# Altium footprint library Connector_Molex.PcbLib: 815 footprints (part 17 of 51)
Each footprint in its own frame and in the unit in brackets; x right, y up, seen from the top. Pads: shape width x height; smd on the part's side, far side on the other; paste and mask are expansions set on the pad; w line width, h text height; cw(c..) or ccw(c..) is an arc to the next point about the centre after c.
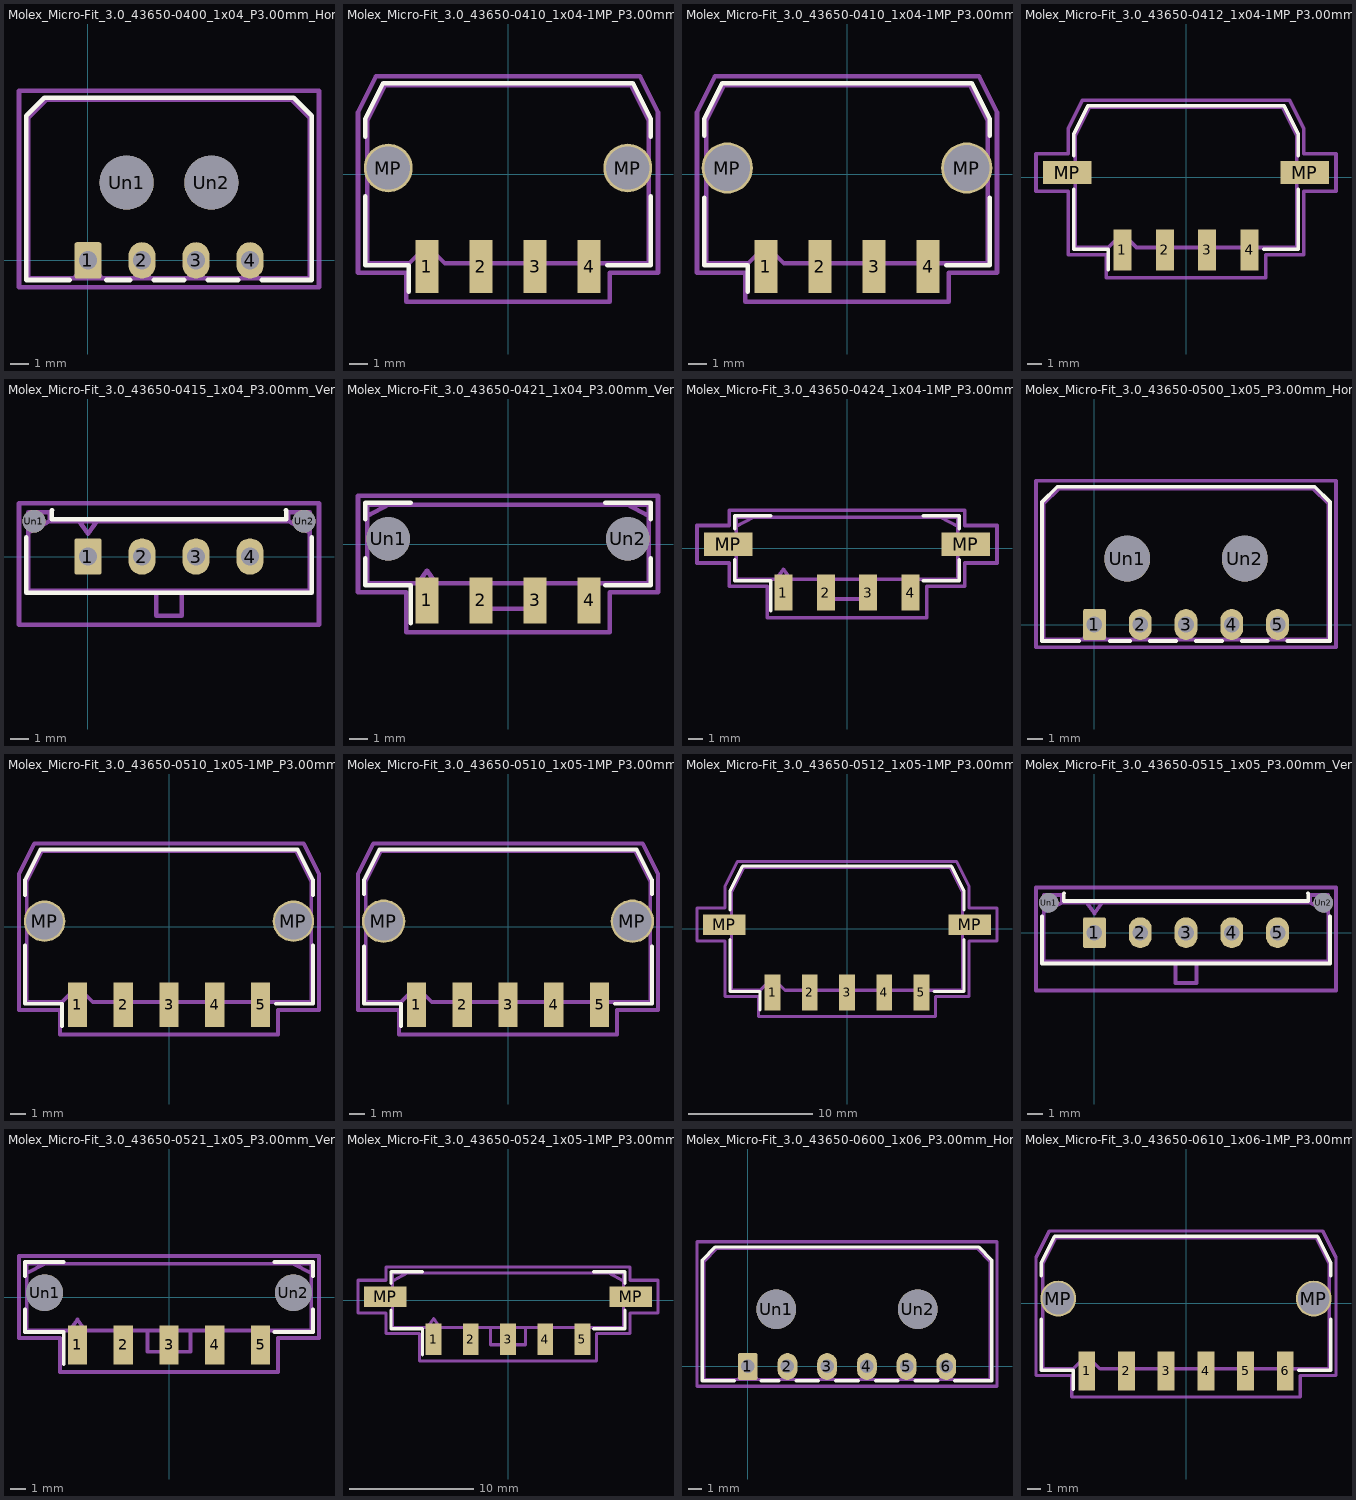
[diagram p16: the footprints below, top view; thin cyan lines are the x and y axes]

## Molex_Micro-Fit_3.0_43650-0400_1x04_P3.00mm_Horizontal [mm]
pads (6):
  rrect17% 1.5x2.02 hole 1.02: 1(0,0)
  rrect100% 1.5x2.02 hole 1.02: 2(3,0) 3(6,0) 4(9,0)
  round 3 hole 3: Un1(2.15,4.32) Un2(6.85,4.32)
F.SilkS:
  lines w0.254: -1.01,-1.09 -3.435,-1.09 -3.435,8.03 -2.435,9.03 11.435,9.03 12.435,8.03 12.435,-1.09 9.652,-1.09 ; 1.01,-1.09 2.348,-1.09 ; 3.652,-1.09 5.348,-1.09 ; 6.652,-1.09 8.348,-1.09
Top Assembly:
  lines w0.254: -0.75,-0.98 0,0 0.75,-0.98 ; -3.325,-0.98 12.325,-0.98 12.325,7.92 11.325,8.92 -2.325,8.92 -3.325,7.92 -3.325,-0.98
  text "'.Designator'" at 0.453,7.38 h1
Top Courtyard:
  lines w0.254: -3.83,-1.49 12.83,-1.49 12.83,9.42 -3.83,9.42 -3.83,-1.49
Top Designator:
  text ".Designator" at -3.118,3.457 h1.52

## Molex_Micro-Fit_3.0_43650-0410_1x04-1MP_P3.00mm_Horizontal [mm]
pads (6):
  rect 1.27x2.92 smd: 1(-4.5,-5.12) 2(-1.5,-5.12) 3(1.5,-5.12) 4(4.5,-5.12)
  round 2.71 hole 2.41: MP(-6.65,0.35) MP(6.65,0.35)
F.SilkS:
  lines w0.254: -7.935,-1.225 -7.935,-5.06 -5.505,-5.06 -5.505,-6.52 ; -7.935,2.075 -7.935,3.06 -6.935,5.06 0,5.06 6.935,5.06 7.935,3.06 7.935,2.075 ; 5.505,-5.06 7.935,-5.06 7.935,-1.225
Top Assembly:
  lines w0.254: -7.825,-4.95 -5.5,-4.95 -4.5,-3.95 -3.5,-4.95 0,-4.95 5.135,-4.95 7.825,-4.95 7.825,1.705 7.825,2.95 6.825,4.95 0,4.95 -6.825,4.95 -7.825,2.95 -7.825,1.705 -7.825,-4.95
  text "'.Designator'" at -4.047,3.41 h1
Top Courtyard:
  lines w0.254: -8.33,-5.46 -5.64,-5.46 -5.64,-7.08 0,-7.08 5.64,-7.08 5.64,-5.46 8.33,-5.46 8.33,2.21 8.33,3.45 7.33,5.45 0,5.45 -7.33,5.45 -8.33,3.45 -8.33,2.21 -8.33,-5.46
Top Designator:
  text ".Designator" at -7.618,-1.323 h1.52

## Molex_Micro-Fit_3.0_43650-0410_1x04-1MP_P3.00mm_Horizontal_PnP [mm]
pads (6):
  rect 1.27x2.92 smd: 1(-4.5,-5.12) 2(-1.5,-5.12) 3(1.5,-5.12) 4(4.5,-5.12)
  round 2.84 hole 2.54: MP(-6.65,0.35) MP(6.65,0.35)
F.SilkS:
  lines w0.254: -7.935,-1.29 -7.935,-5.06 -5.505,-5.06 -5.505,-6.52 ; -7.935,2.14 -7.935,3.06 -6.935,5.06 0,5.06 6.935,5.06 7.935,3.06 7.935,2.14 ; 5.505,-5.06 7.935,-5.06 7.935,-1.29
Top Assembly:
  lines w0.254: -7.825,-4.95 -5.5,-4.95 -4.5,-3.95 -3.5,-4.95 0,-4.95 5.135,-4.95 7.825,-4.95 7.825,1.77 7.825,2.95 6.825,4.95 0,4.95 -6.825,4.95 -7.825,2.95 -7.825,1.77 -7.825,-4.95
  text "'.Designator'" at -4.047,3.41 h1
Top Courtyard:
  lines w0.254: -8.33,-5.46 -5.64,-5.46 -5.64,-7.08 0,-7.08 5.64,-7.08 5.64,-5.46 8.33,-5.46 8.33,2.27 8.33,3.45 7.33,5.45 0,5.45 -7.33,5.45 -8.33,3.45 -8.33,2.27 -8.33,-5.46
Top Designator:
  text ".Designator" at -7.618,-1.323 h1.52

## Molex_Micro-Fit_3.0_43650-0412_1x04-1MP_P3.00mm_Horizontal [mm]
pads (6):
  rect 1.27x2.92 smd: 1(-4.5,-5.12) 2(-1.5,-5.12) 3(1.5,-5.12) 4(4.5,-5.12)
  rect 3.43x1.65 smd: MP(-8.385,0.35) MP(8.385,0.35)
F.SilkS:
  lines w0.254: -7.935,-0.845 -7.935,-5.06 -5.505,-5.06 -5.505,-6.52 ; -7.935,1.545 -7.935,3.06 -6.935,5.06 0,5.06 6.935,5.06 7.935,3.06 7.935,1.545 ; 5.505,-5.06 7.935,-5.06 7.935,-0.845
Top Assembly:
  lines w0.254: -7.825,-4.95 -5.5,-4.95 -4.5,-3.95 -3.5,-4.95 0,-4.95 5.135,-4.95 7.825,-4.95 7.825,1.175 7.825,2.95 6.825,4.95 0,4.95 -6.825,4.95 -7.825,2.95 -7.825,1.175 -7.825,-4.95
  text "'.Designator'" at -4.047,3.41 h1
Top Courtyard:
  lines w0.254: -10.6,-0.98 -8.33,-0.98 -8.33,-5.46 -5.64,-5.46 -5.64,-7.08 0,-7.08 5.64,-7.08 5.64,-5.46 8.33,-5.46 8.33,-0.98 10.6,-0.98 10.6,1.68 8.33,1.68 8.33,3.45 7.33,5.45 0,5.45 -7.33,5.45 -8.33,3.45 -8.33,1.68 -10.6,1.68 -10.6,-0.98
Top Designator:
  text ".Designator" at -7.618,-1.323 h1.52

## Molex_Micro-Fit_3.0_43650-0415_1x04_P3.00mm_Vertical [mm]
pads (6):
  rrect17% 1.5x2.02 hole 1.02: 1(0,0)
  rrect100% 1.5x2.02 hole 1.02: 2(3,0) 3(6,0) 4(9,0)
  round 1.27 hole 1.27: Un1(-3,1.96) Un2(12,1.96)
F.SilkS:
  lines w0.254: -3.435,1.065 -3.435,-2.01 12.435,-2.01 12.435,1.065 ; -1.995,2.58 -2.015,2.58 -2.015,2.08 11.015,2.08 11.015,2.58 10.995,2.58
Top Assembly:
  lines w0.254: -3.325,1.34 -2.125,1.97 ; -0.5,1.97 0,1.263 0.5,1.97 ; 3.8,-1.9 3.8,-3.3 5.2,-3.3 5.2,-1.9 ; 12.325,1.34 11.125,1.97 ; -2.125,1.97 11.125,1.97 ; -2.125,1.97 -2.125,2.47 -3.325,2.47 -3.325,-1.9 12.325,-1.9 12.325,2.47 11.125,2.47 11.125,1.97
  text "'.Designator'" at 0.453,-2.04 h1
Top Courtyard:
  lines w0.254: -3.83,-3.8 12.83,-3.8 12.83,2.97 -3.83,2.97 -3.83,-3.8
Top Designator:
  text ".Designator" at -3.118,-0.923 h1.52

## Molex_Micro-Fit_3.0_43650-0421_1x04_P3.00mm_Vertical [mm]
pads (6):
  rect 1.27x2.54 smd: 1(-4.5,-3.135) 2(-1.5,-3.135) 3(1.5,-3.135) 4(4.5,-3.135)
  round 2.41 hole 2.41: Un1(-6.65,0.285) Un2(6.65,0.285)
F.SilkS:
  lines w0.254: -7.935,-0.8 -7.935,-2.295 -5.395,-2.295 -5.395,-4.405 ; -7.935,1.37 -7.935,2.295 -6.515,2.295 -5.395,2.295 ; 5.395,-2.295 7.935,-2.295 7.935,-0.8 ; 5.395,2.295 6.515,2.295 7.935,2.295 7.935,1.37
Top Assembly:
  lines w0.254: -7.825,1.555 -6.625,2.185 ; -5,-2.185 -4.5,-1.478 -4,-2.185 ; -1.4,-2.185 -1.4,-3.585 1.4,-3.585 1.4,-2.185 ; 7.825,1.555 6.625,2.185 ; -6.625,2.185 6.625,2.185 ; -6.625,2.185 -7.825,2.185 -7.825,-2.185 7.825,-2.185 7.825,2.185 6.625,2.185
  text "'.Designator'" at -4.047,-2.32 h1
Top Courtyard:
  lines w0.254: -8.33,-2.69 -5.64,-2.69 -5.64,-4.91 0,-4.91 5.64,-4.91 5.64,-2.69 8.33,-2.69 8.33,2.69 5.64,2.69 0,2.69 -5.64,2.69 -8.33,2.69 -8.33,-2.69
Top Designator:
  text ".Designator" at -7.618,-1.618 h1.52

## Molex_Micro-Fit_3.0_43650-0424_1x04-1MP_P3.00mm_Vertical [mm]
pads (6):
  rect 1.27x2.54 smd: 1(-4.5,-3.135) 2(-1.5,-3.135) 3(1.5,-3.135) 4(4.5,-3.135)
  rect 3.43x1.65 smd: MP(-8.385,0.285) MP(8.385,0.285)
F.SilkS:
  lines w0.254: -7.935,-0.8 -7.935,-2.295 -5.395,-2.295 -5.395,-4.405 ; -7.935,1.37 -7.935,2.295 -6.515,2.295 -5.395,2.295 ; 5.395,-2.295 7.935,-2.295 7.935,-0.8 ; 5.395,2.295 6.515,2.295 7.935,2.295 7.935,1.37
Top Assembly:
  lines w0.254: -7.825,1.555 -6.625,2.185 ; -5,-2.185 -4.5,-1.478 -4,-2.185 ; -1.4,-2.185 -1.4,-3.585 1.4,-3.585 1.4,-2.185 ; 7.825,1.555 6.625,2.185 ; -6.625,2.185 6.625,2.185 ; -6.625,2.185 -7.825,2.185 -7.825,-2.185 7.825,-2.185 7.825,2.185 6.625,2.185
  text "'.Designator'" at -4.047,-2.32 h1
Top Courtyard:
  lines w0.254: -10.6,-1.04 -8.33,-1.04 -8.33,-2.69 -5.64,-2.69 -5.64,-4.91 0,-4.91 5.64,-4.91 5.64,-2.69 8.33,-2.69 8.33,-1.04 10.6,-1.04 10.6,1.61 8.33,1.61 8.33,2.69 5.64,2.69 0,2.69 -5.64,2.69 -8.33,2.69 -8.33,1.61 -10.6,1.61 -10.6,-1.04
Top Designator:
  text ".Designator" at -7.618,-1.618 h1.52

## Molex_Micro-Fit_3.0_43650-0500_1x05_P3.00mm_Horizontal [mm]
pads (7):
  rrect17% 1.5x2.02 hole 1.02: 1(0,0)
  rrect100% 1.5x2.02 hole 1.02: 2(3,0) 3(6,0) 4(9,0) 5(12,0)
  round 3 hole 3: Un1(2.15,4.32) Un2(9.85,4.32)
F.SilkS:
  lines w0.254: -1.01,-1.09 -3.435,-1.09 -3.435,8.03 -2.435,9.03 14.435,9.03 15.435,8.03 15.435,-1.09 12.652,-1.09 ; 1.01,-1.09 2.348,-1.09 ; 3.652,-1.09 5.348,-1.09 ; 6.652,-1.09 8.348,-1.09 ; 9.652,-1.09 11.348,-1.09
Top Assembly:
  lines w0.254: -0.75,-0.98 0,0 0.75,-0.98 ; -3.325,-0.98 15.325,-0.98 15.325,7.92 14.325,8.92 -2.325,8.92 -3.325,7.92 -3.325,-0.98
  text "'.Designator'" at 1.953,7.38 h1
Top Courtyard:
  lines w0.254: -3.83,-1.49 15.83,-1.49 15.83,9.42 -3.83,9.42 -3.83,-1.49
Top Designator:
  text ".Designator" at -1.618,3.457 h1.52

## Molex_Micro-Fit_3.0_43650-0510_1x05-1MP_P3.00mm_Horizontal [mm]
pads (7):
  rect 1.27x2.92 smd: 1(-6,-5.12) 2(-3,-5.12) 3(0,-5.12) 4(3,-5.12) 5(6,-5.12)
  round 2.71 hole 2.41: MP(-8.15,0.35) MP(8.15,0.35)
F.SilkS:
  lines w0.254: -9.435,-1.225 -9.435,-5.06 -7.005,-5.06 -7.005,-6.52 ; -9.435,2.075 -9.435,3.06 -8.435,5.06 0,5.06 8.435,5.06 9.435,3.06 9.435,2.075 ; 7.005,-5.06 9.435,-5.06 9.435,-1.225
Top Assembly:
  lines w0.254: -9.325,-4.95 -7,-4.95 -6,-3.95 -5,-4.95 0,-4.95 6.635,-4.95 9.325,-4.95 9.325,1.705 9.325,2.95 8.325,4.95 0,4.95 -8.325,4.95 -9.325,2.95 -9.325,1.705 -9.325,-4.95
  text "'.Designator'" at -4.047,3.41 h1
Top Courtyard:
  lines w0.254: -9.83,-5.46 -7.14,-5.46 -7.14,-7.08 0,-7.08 7.14,-7.08 7.14,-5.46 9.83,-5.46 9.83,2.21 9.83,3.45 8.83,5.45 0,5.45 -8.83,5.45 -9.83,3.45 -9.83,2.21 -9.83,-5.46
Top Designator:
  text ".Designator" at -7.618,-1.323 h1.52

## Molex_Micro-Fit_3.0_43650-0510_1x05-1MP_P3.00mm_Horizontal_PnP [mm]
pads (7):
  rect 1.27x2.92 smd: 1(-6,-5.12) 2(-3,-5.12) 3(0,-5.12) 4(3,-5.12) 5(6,-5.12)
  round 2.84 hole 2.54: MP(-8.15,0.35) MP(8.15,0.35)
F.SilkS:
  lines w0.254: -9.435,-1.29 -9.435,-5.06 -7.005,-5.06 -7.005,-6.52 ; -9.435,2.14 -9.435,3.06 -8.435,5.06 0,5.06 8.435,5.06 9.435,3.06 9.435,2.14 ; 7.005,-5.06 9.435,-5.06 9.435,-1.29
Top Assembly:
  lines w0.254: -9.325,-4.95 -7,-4.95 -6,-3.95 -5,-4.95 0,-4.95 6.635,-4.95 9.325,-4.95 9.325,1.77 9.325,2.95 8.325,4.95 0,4.95 -8.325,4.95 -9.325,2.95 -9.325,1.77 -9.325,-4.95
  text "'.Designator'" at -4.047,3.41 h1
Top Courtyard:
  lines w0.254: -9.83,-5.46 -7.14,-5.46 -7.14,-7.08 0,-7.08 7.14,-7.08 7.14,-5.46 9.83,-5.46 9.83,2.27 9.83,3.45 8.83,5.45 0,5.45 -8.83,5.45 -9.83,3.45 -9.83,2.27 -9.83,-5.46
Top Designator:
  text ".Designator" at -7.618,-1.323 h1.52

## Molex_Micro-Fit_3.0_43650-0512_1x05-1MP_P3.00mm_Horizontal [mm]
pads (7):
  rect 1.27x2.92 smd: 1(-6,-5.12) 2(-3,-5.12) 3(0,-5.12) 4(3,-5.12) 5(6,-5.12)
  rect 3.43x1.65 smd: MP(-9.885,0.35) MP(9.885,0.35)
F.SilkS:
  lines w0.254: -9.435,-0.845 -9.435,-5.06 -7.005,-5.06 -7.005,-6.52 ; -9.435,1.545 -9.435,3.06 -8.435,5.06 0,5.06 8.435,5.06 9.435,3.06 9.435,1.545 ; 7.005,-5.06 9.435,-5.06 9.435,-0.845
Top Assembly:
  lines w0.254: -9.325,-4.95 -7,-4.95 -6,-3.95 -5,-4.95 0,-4.95 6.635,-4.95 9.325,-4.95 9.325,1.175 9.325,2.95 8.325,4.95 0,4.95 -8.325,4.95 -9.325,2.95 -9.325,1.175 -9.325,-4.95
  text "'.Designator'" at -4.047,3.41 h1
Top Courtyard:
  lines w0.254: -12.1,-0.98 -9.83,-0.98 -9.83,-5.46 -7.14,-5.46 -7.14,-7.08 0,-7.08 7.14,-7.08 7.14,-5.46 9.83,-5.46 9.83,-0.98 12.1,-0.98 12.1,1.68 9.83,1.68 9.83,3.45 8.83,5.45 0,5.45 -8.83,5.45 -9.83,3.45 -9.83,1.68 -12.1,1.68 -12.1,-0.98
Top Designator:
  text ".Designator" at -7.618,-1.323 h1.52

## Molex_Micro-Fit_3.0_43650-0515_1x05_P3.00mm_Vertical [mm]
pads (7):
  rrect17% 1.5x2.02 hole 1.02: 1(0,0)
  rrect100% 1.5x2.02 hole 1.02: 2(3,0) 3(6,0) 4(9,0) 5(12,0)
  round 1.27 hole 1.27: Un1(-3,1.96) Un2(15,1.96)
F.SilkS:
  lines w0.254: -3.435,1.065 -3.435,-2.01 15.435,-2.01 15.435,1.065 ; -1.995,2.58 -2.015,2.58 -2.015,2.08 14.015,2.08 14.015,2.58 13.995,2.58
Top Assembly:
  lines w0.254: -3.325,1.34 -2.125,1.97 ; -0.5,1.97 0,1.263 0.5,1.97 ; 5.3,-1.9 5.3,-3.3 6.7,-3.3 6.7,-1.9 ; 15.325,1.34 14.125,1.97 ; -2.125,1.97 14.125,1.97 ; -2.125,1.97 -2.125,2.47 -3.325,2.47 -3.325,-1.9 15.325,-1.9 15.325,2.47 14.125,2.47 14.125,1.97
  text "'.Designator'" at 1.953,-2.04 h1
Top Courtyard:
  lines w0.254: -3.83,-3.8 15.83,-3.8 15.83,2.97 -3.83,2.97 -3.83,-3.8
Top Designator:
  text ".Designator" at -1.618,-0.923 h1.52

## Molex_Micro-Fit_3.0_43650-0521_1x05_P3.00mm_Vertical [mm]
pads (7):
  rect 1.27x2.54 smd: 1(-6,-3.135) 2(-3,-3.135) 3(0,-3.135) 4(3,-3.135) 5(6,-3.135)
  round 2.41 hole 2.41: Un1(-8.15,0.285) Un2(8.15,0.285)
F.SilkS:
  lines w0.254: -9.435,-0.8 -9.435,-2.295 -6.895,-2.295 -6.895,-4.405 ; -9.435,1.37 -9.435,2.295 -8.015,2.295 -6.895,2.295 ; 6.895,-2.295 9.435,-2.295 9.435,-0.8 ; 6.895,2.295 8.015,2.295 9.435,2.295 9.435,1.37
Top Assembly:
  lines w0.254: -9.325,1.555 -8.125,2.185 ; -6.5,-2.185 -6,-1.478 -5.5,-2.185 ; -1.4,-2.185 -1.4,-3.585 1.4,-3.585 1.4,-2.185 ; 9.325,1.555 8.125,2.185 ; -8.125,2.185 8.125,2.185 ; -8.125,2.185 -9.325,2.185 -9.325,-2.185 9.325,-2.185 9.325,2.185 8.125,2.185
  text "'.Designator'" at -4.047,-2.32 h1
Top Courtyard:
  lines w0.254: -9.83,-2.69 -7.14,-2.69 -7.14,-4.91 0,-4.91 7.14,-4.91 7.14,-2.69 9.83,-2.69 9.83,2.69 7.14,2.69 0,2.69 -7.14,2.69 -9.83,2.69 -9.83,-2.69
Top Designator:
  text ".Designator" at -7.618,-1.618 h1.52

## Molex_Micro-Fit_3.0_43650-0524_1x05-1MP_P3.00mm_Vertical [mm]
pads (7):
  rect 1.27x2.54 smd: 1(-6,-3.135) 2(-3,-3.135) 3(0,-3.135) 4(3,-3.135) 5(6,-3.135)
  rect 3.43x1.65 smd: MP(-9.885,0.285) MP(9.885,0.285)
F.SilkS:
  lines w0.254: -9.435,-0.8 -9.435,-2.295 -6.895,-2.295 -6.895,-4.405 ; -9.435,1.37 -9.435,2.295 -8.015,2.295 -6.895,2.295 ; 6.895,-2.295 9.435,-2.295 9.435,-0.8 ; 6.895,2.295 8.015,2.295 9.435,2.295 9.435,1.37
Top Assembly:
  lines w0.254: -9.325,1.555 -8.125,2.185 ; -6.5,-2.185 -6,-1.478 -5.5,-2.185 ; -1.4,-2.185 -1.4,-3.585 1.4,-3.585 1.4,-2.185 ; 9.325,1.555 8.125,2.185 ; -8.125,2.185 8.125,2.185 ; -8.125,2.185 -9.325,2.185 -9.325,-2.185 9.325,-2.185 9.325,2.185 8.125,2.185
  text "'.Designator'" at -4.047,-2.32 h1
Top Courtyard:
  lines w0.254: -12.1,-1.04 -9.83,-1.04 -9.83,-2.69 -7.14,-2.69 -7.14,-4.91 0,-4.91 7.14,-4.91 7.14,-2.69 9.83,-2.69 9.83,-1.04 12.1,-1.04 12.1,1.61 9.83,1.61 9.83,2.69 7.14,2.69 0,2.69 -7.14,2.69 -9.83,2.69 -9.83,1.61 -12.1,1.61 -12.1,-1.04
Top Designator:
  text ".Designator" at -7.618,-1.618 h1.52

## Molex_Micro-Fit_3.0_43650-0600_1x06_P3.00mm_Horizontal [mm]
pads (8):
  rrect17% 1.5x2.02 hole 1.02: 1(0,0)
  rrect100% 1.5x2.02 hole 1.02: 2(3,0) 3(6,0) 4(9,0) 5(12,0) 6(15,0)
  round 3 hole 3: Un1(2.15,4.32) Un2(12.85,4.32)
F.SilkS:
  lines w0.254: -1.01,-1.09 -3.435,-1.09 -3.435,8.03 -2.435,9.03 17.435,9.03 18.435,8.03 18.435,-1.09 15.652,-1.09 ; 1.01,-1.09 2.348,-1.09 ; 3.652,-1.09 5.348,-1.09 ; 6.652,-1.09 8.348,-1.09 ; 9.652,-1.09 11.348,-1.09 ; 12.652,-1.09 14.348,-1.09
Top Assembly:
  lines w0.254: -0.75,-0.98 0,0 0.75,-0.98 ; -3.325,-0.98 18.325,-0.98 18.325,7.92 17.325,8.92 -2.325,8.92 -3.325,7.92 -3.325,-0.98
  text "'.Designator'" at 3.453,7.38 h1
Top Courtyard:
  lines w0.254: -3.83,-1.49 18.83,-1.49 18.83,9.42 -3.83,9.42 -3.83,-1.49
Top Designator:
  text ".Designator" at -0.118,3.457 h1.52

## Molex_Micro-Fit_3.0_43650-0610_1x06-1MP_P3.00mm_Horizontal [mm]
pads (8):
  rect 1.27x2.92 smd: 1(-7.5,-5.12) 2(-4.5,-5.12) 3(-1.5,-5.12) 4(1.5,-5.12) 5(4.5,-5.12) 6(7.5,-5.12)
  round 2.71 hole 2.41: MP(-9.65,0.35) MP(9.65,0.35)
F.SilkS:
  lines w0.254: -10.935,-1.225 -10.935,-5.06 -8.505,-5.06 -8.505,-6.52 ; -10.935,2.075 -10.935,3.06 -9.935,5.06 0,5.06 9.935,5.06 10.935,3.06 10.935,2.075 ; 8.505,-5.06 10.935,-5.06 10.935,-1.225
Top Assembly:
  lines w0.254: -10.825,-4.95 -8.5,-4.95 -7.5,-3.95 -6.5,-4.95 0,-4.95 8.135,-4.95 10.825,-4.95 10.825,1.705 10.825,2.95 9.825,4.95 0,4.95 -9.825,4.95 -10.825,2.95 -10.825,1.705 -10.825,-4.95
  text "'.Designator'" at -4.047,3.41 h1
Top Courtyard:
  lines w0.254: -11.33,-5.46 -8.64,-5.46 -8.64,-7.08 0,-7.08 8.64,-7.08 8.64,-5.46 11.33,-5.46 11.33,2.21 11.33,3.45 10.33,5.45 0,5.45 -10.33,5.45 -11.33,3.45 -11.33,2.21 -11.33,-5.46
Top Designator:
  text ".Designator" at -7.618,-1.323 h1.52